# EAGLE library part INA126PA (library TSAR_Controller)
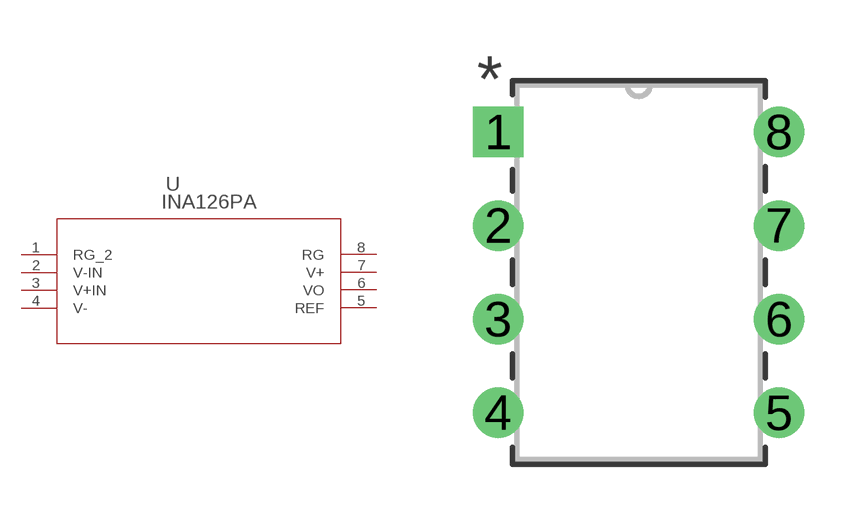
[diagram p4: symbol with the pads of P8; footprint P8]

Designator prefix U

## INA126PA (BUILT_BY: EMA_UL_Team; MANUFACTURER_PART_NUMBER: INA126PA; VENDOR: Texas Instruments)  [P8]
1  RG_2  pas
2  V-IN  in
3  V+IN  in
4  V-  pwr
5  REF  pas
6  VO  out
7  V+  pwr
8  RG  pas

## Footprint P8 (pad centres in mm)
drill 0.864 pad 1.372 square: 1 -7.62,7.62
drill 0.864 pad 1.372: 2 -7.62,5.08; 3 -7.62,2.54; 4 -7.62,0; 5 0,0; 6 0,2.54; 7 0,5.08; 8 0,7.62